# Altium footprint library GlassFuseClipper.PcbLib: 1 footprints
Each footprint in its own frame and in the unit in brackets; x right, y up, seen from the top. Pads: shape width x height; smd on the part's side, far side on the other; paste and mask are expansions set on the pad; w line width, h text height; cw(c..) or ccw(c..) is an arc to the next point about the centre after c.
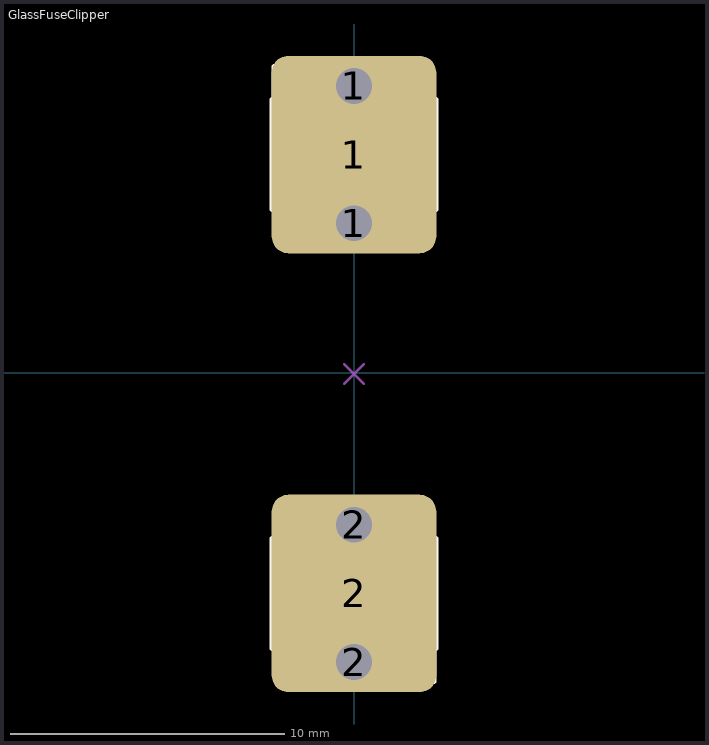
[diagram p0: the footprint, top view; thin cyan lines are the x and y axes]

## GlassFuseClipper [mm]
pads (6):
  round 2 hole 1.3: 1(0,5.459) 1(0,10.459) 2(0,-10.541) 2(0,-5.541)
  rrect20% 6x7.2 smd paste-2.2 mask-2.2: 1(0,7.959) 2(0,-8.041)
Top Overlay:
  lines w0.2: -2.9,9.959 -2.9,11.159 -1.212,11.159 ; -2.727,-10.041 -2.727,-6.041 ; -2.727,5.959 -2.727,9.959 ; -2.6,-10.041 -2.978,-10.041 -2.978,-6.041 -2.6,-6.041 ; -2.6,5.959 -2.978,5.959 -2.978,9.959 -2.6,9.959 ; 1.212,-11.241 2.9,-11.241 2.9,-10.041 ; 2.6,-10.041 2.978,-10.041 2.978,-6.041 2.6,-6.041 ; 2.6,5.959 2.978,5.959 2.978,9.959 2.6,9.959 ; 2.727,-10.041 2.727,-6.041 ; 2.727,5.959 2.727,9.959
Mechanical 8:
  lines w0.1: -0.5,-8.041 0,-8.041 ; -0.5,-8.041 0,-8.041 ; 0.5,-8.041 0,-8.041 ; 0.5,-8.041 0,-8.041 ; 0,-10.541 0.5,-10.541 0,-10.541 ; 0,-10.541 0,-11.041 0,-10.541 ; 0,-10.541 -0.5,-10.541 0,-10.541 ; 0,-10.541 0,-10.041 0,-10.541 ; 0,-8.041 0,-8.541 0,-8.041 ; 0,-8.041 0,-7.541 0,-8.041 ; 0,-5.541 0.5,-5.541 0,-5.541 ; 0,-5.541 0,-6.041 0,-5.541 ; 0,-5.541 -0.5,-5.541 0,-5.541 ; 0,-5.541 0,-5.041 0,-5.541 ; 0,-0.041 0.354,0.313 0,-0.041 ; 0,-0.041 0.354,-0.395 0,-0.041 ; 0,-0.041 -0.354,-0.395 0,-0.041 ; 0,-0.041 -0.354,0.313 0,-0.041 ; 0,5.459 0.5,5.459 0,5.459 ; 0,5.459 0,4.959 0,5.459 ; 0,5.459 -0.5,5.459 0,5.459 ; 0,5.459 0,5.959 0,5.459 ; 0,7.959 0.5,7.959 0,7.959 ; 0,7.959 0,7.459 0,7.959 ; 0,7.959 -0.5,7.959 0,7.959 ; 0,7.959 0,8.459 0,7.959 ; 0,10.459 0.5,10.459 0,10.459 ; 0,10.459 0,9.959 0,10.459 ; 0,10.459 -0.5,10.459 0,10.459 ; 0,10.459 0,10.959 0,10.459
Mechanical 14:
  lines w0.1: -2.9,9.959 -2.9,11.159 0,11.159 0,10.759 ; -2.727,-10.041 -2.727,-6.041 ; -2.727,5.959 -2.727,9.959 ; -2.247,9.959 -2.247,10.759 1.741,10.759 1.741,5.159 -1.741,5.159 -1.741,10.759 ; -1.741,-10.041 -2.978,-10.041 -2.978,-6.041 -1.741,-6.041 ; -1.741,5.959 -2.978,5.959 -2.978,9.959 -1.741,9.959 ; 0,-10.841 0,-11.241 2.9,-11.241 2.9,-10.041 ; 1.741,-10.841 1.741,-5.241 -1.741,-5.241 -1.741,-10.841 2.247,-10.841 2.247,-10.041 ; 1.741,-10.041 2.978,-10.041 2.978,-6.041 1.741,-6.041 ; 1.741,5.959 2.978,5.959 2.978,9.959 1.741,9.959 ; 2.727,-10.041 2.727,-6.041 ; 2.727,5.959 2.727,9.959
3D body "FUSH_LITTELFUSE_520.stp": height 10, standoff -3.5, extent -2.978,5.159 2.978,11.159
3D body "FUSH_LITTELFUSE_520.stp": height 10, standoff -3.5, extent -2.978,-11.241 2.978,-5.241